# EAGLE library part LMR516X5 (library Public)
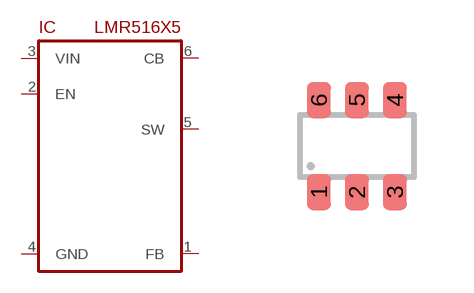
[diagram p198: symbol with the pads of SOT23-6; footprint SOT23-6]

Designator prefix IC

## LMR516X5  [SOT23-6]
1  FB
2  EN
3  VIN
4  GND
5  SW
6  CB

## Footprint SOT23-6 (pad centres in mm)
SOT23-6 SOT26 SC59-6 SC74 TSOP-6 MO-178AB SMT6 SM6 Mini6 SOT457
smd 0.6 x 0.9: 1 -0.95,-1.15; 2 0,-1.15; 3 0.95,-1.15; 4 0.95,1.15; 5 0,1.15; 6 -0.95,1.15